# Altium schematic symbol library StreamDeck-V0.SchLib: 22 symbols
Pins are listed as number, name and electrical type; pins without a type are passive.

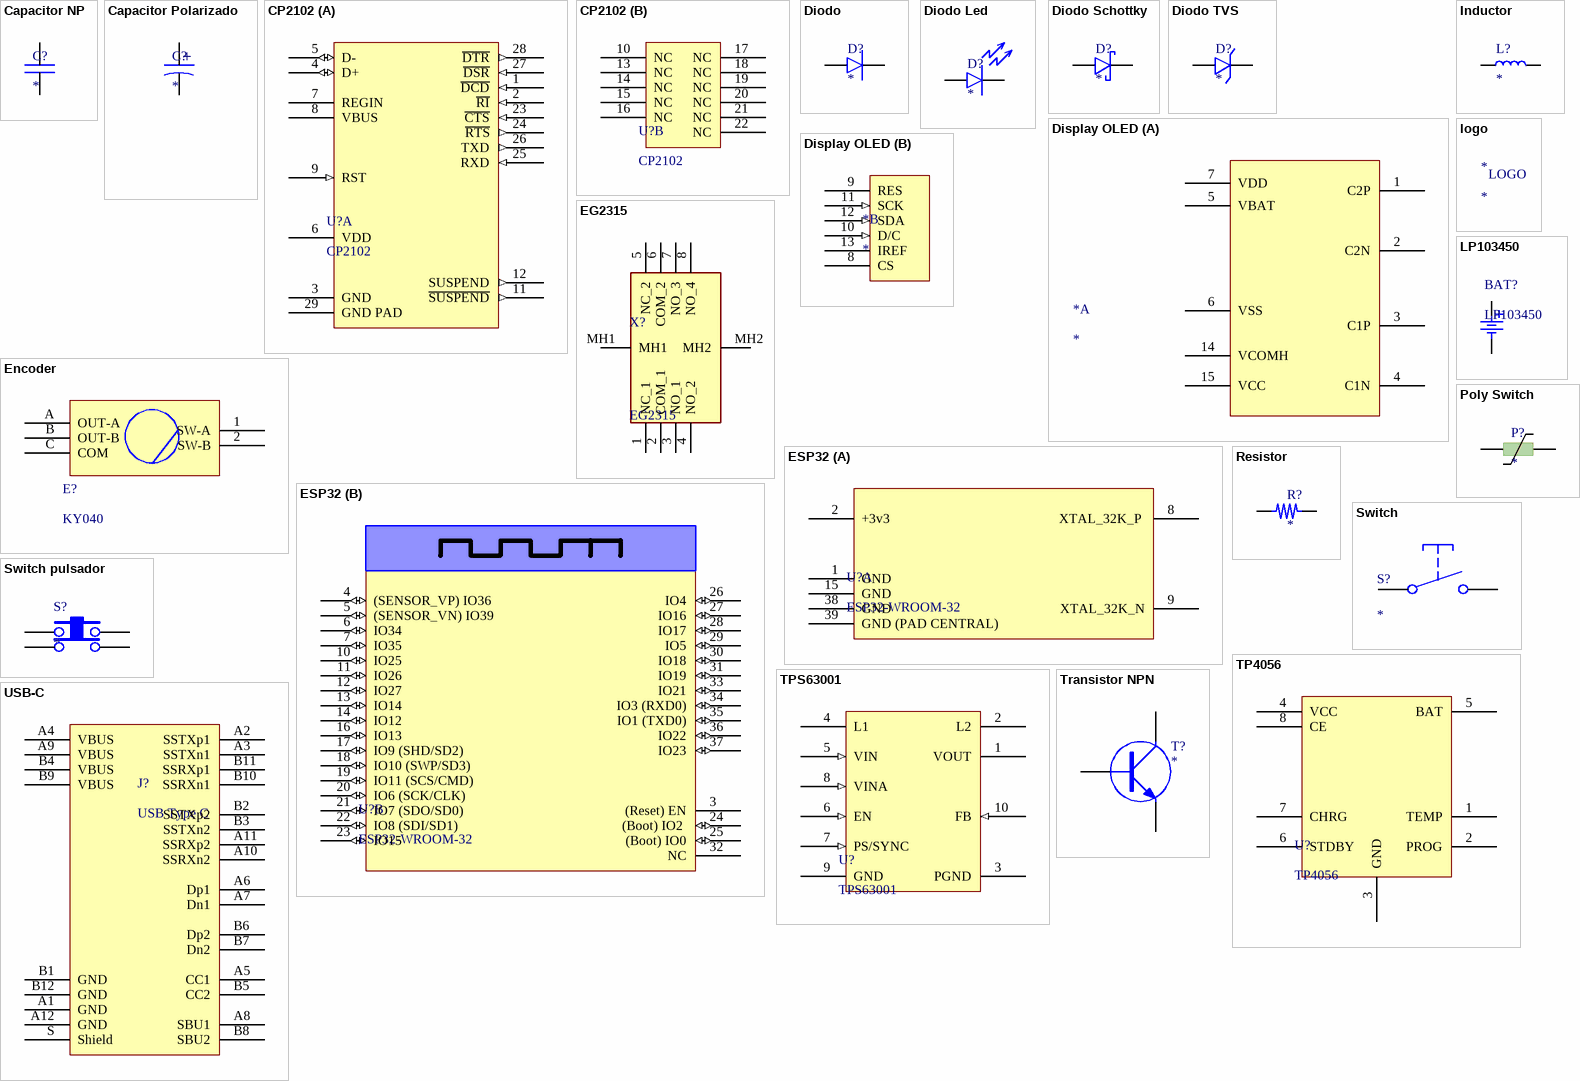
[diagram p0: symbols Capacitor NP to USB-C]

## Capacitor NP
designator C?
Capacitor no polarizado
pins: 1, 2

## Capacitor Polarizado
designator C?
Capacitor polarizado
pins: 1, 2
text: +

## CP2102
designator U?
SINGLE-CHIP USB TO UART BRIDGE WITH BUILT IN 3V3 REGULATOR
part A pins: 1 ~{DCD} (in), 2 ~{RI} (in), 3 GND, 4 D+ (io), 5 D- (io), 6 VDD (power), 7 REGIN, 8 VBUS (power), 9 RST (in), 11 ~{SUSPEND} (out), 12 SUSPEND (out), 23 ~{CTS} (in), 24 ~{RTS} (out), 25 RXD (in), 26 TXD (out), 27 ~{DSR} (in), 28 ~{DTR} (out), 29 GND PAD
part B pins: 10 NC, 13 NC, 14 NC, 15 NC, 16 NC, 17 NC, 18 NC, 19 NC, 20 NC, 21 NC, 22 NC

## Diodo
designator D?
Diodo
pins: 1 anodo, 2 catodo

## Diodo Led
designator D?
Diodo LED
pins: 1 anodo, 2 catodo

## Diodo Schottky
designator D?
Diodo Schottky
pins: 1 anodo, 2

## Diodo TVS
designator D?
Diodo TVS
pins: 1 anodo, 2 catodo

## Display OLED
designator *
Display OLED 0.91'' -  I2C - 128x32px - Controlador SSD1306
part A pins: 1 C2P, 2 C2N, 3 C1P, 4 C1N, 5 VBAT (power), 6 VSS (power), 7 VDD (power), 14 VCOMH (power), 15 VCC (power)
part B pins: 8 CS, 9 RES, 10 D/C (in), 11 SCK (in), 12 SDA (in), 13 IREF

## EG2315
designator X?
SLIDE, 200mA, 30VDC DP3T, On-On-On Through Hole, Right Angle; Manufacturer_Name: E-Switch; Geometry.Height: 4.7mm; Mouser Part Number: 612-EG2315; Mouser Price/Stock: https://www.mouser.co.uk/ProductDetail/E-Switch/EG2315?qs=6C6BR4UgC3OZWOW4uUYcjQ%3D%3D; Manufacturer_Part_Number: EG2315; Datasheet Link: https://configured-product-images.s3.amazonaws.com/2D/specs/EG2315.pdf
pins: 1 NC_1, 2 COM_1, 3 NO_1, 4 NO_2, 5 NC_2, 6 COM_2, 7 NO_3, 8 NO_4, MH1, MH2

## Encoder
designator E?, comment KY040
Encoder KY040
pins: 1 SW-A, 2 SW-B, A OUT-A, B OUT-B, C COM

## ESP32
designator U?, comment ESP32-WROOM-32
Modulo Bluetooth/Wifi/Microcontrolador ESP32-WROOM-32 de EspressIf. 38 pines, SMD, con antena incluida.
part A pins: 1 GND (power), 2 +3v3 (power), 8 XTAL_32K_P  "Cristal de 32.768khz +", 9 XTAL_32K_N "Cristal de 32.768khz -", 15 GND (power), 38 GND (power), 39 GND (PAD CENTRAL) (power)
part B pins: 3 (Reset) EN "Pullup interno - Poniendo un "0" se resetea", 4 (SENSOR_VP) IO36 (io), 5 (SENSOR_VN) IO39 (io), 6 IO34 (io), 7 IO35 (io), 10 IO25 (io), 11 IO26 (io), 12 IO27 (io), 13 IO14 (io), 14 IO12 (io), 16 IO13 (io), 17 IO9 (SHD/SD2) (io), 18 IO10 (SWP/SD3) (io), 19 IO11 (SCS/CMD) (io), 20 IO6 (SCK/CLK) (io), 21 IO7 (SDO/SD0) (io), 22 IO8 (SDI/SD1) (io), 23 IO15 (io), 24 (Boot) IO2  (io), 25 (Boot) IO0 (io) "Pullup interna - Poniendo un "0" entra en modo download", 26 IO4 (io), 27 IO16 (io), 28 IO17 (io), 29 IO5 (io), 30 IO18 (io), 31 IO19 (io), 32 NC, 33 IO21 (io), 34 IO3 (RXD0) (io), 35 IO1 (TXD0) (io), 36 IO22 (io), 37 IO23 (io)

## Inductor
designator L?
Inductor
pins: 1, 2

## logo
designator *
text: LOGO

## LP103450
designator BAT?
Bateria LiPo LP103450 - 3.7v - 1800mAh - 900mA corriente maxima de carga. Proteccion de descarga, temperatura y sobrecarga
pins: 1, 2

## Poly Switch
designator P?
Poly Switch
pins: 1 (power), 2 (power)

## Resistor
designator R?
Resistor
pins: 1, 2

## Switch
designator S?
Pulsador mecanico - Otemu/Cherry/Gateron
pins: 1, 2

## Switch pulsador
designator S?
Tact switch PCB
pins: 1, 2, 3, 4

## TP4056
designator U?
Standalone Linear Li-lon Battery Charger with Thermal Regulation in SOP-8
pins: 1 TEMP, 2 PROG, 3 GND (power), 4 VCC (power), 5 BAT (power), 6 STDBY, 7 CHRG, 8 CE

## TPS63001
designator U?
High-Efficient Single Inductor Buck-Boost Converter With 1.8-A Switches
pins: 1 VOUT (power), 2 L2, 3 PGND (power) "Power ground", 4 L1, 5 VIN (in) "Supply voltage for power stage", 6 EN (in), 7 PS/SYNC (in) "Enable / disable power-save mode (1 disabled, 0 enabled, clock signal for synchronization)", 8 VINA (in) "Supply voltage for control stage", 9 GND (power) "Control / logic ground", 10 FB (in)

## Transistor NPN
designator T?
Transistor bipolar NPN - Encapsulado SOT-23
pins: 1 B, 2 C, 3 E

## USB-C
designator J?, comment USB Type C
Conector USB C 3.0
pins: A1 GND, A2 SSTXp1, A3 SSTXn1, A4 VBUS, A5 CC1, A6 Dp1, A7 Dn1, A8 SBU1, A9 VBUS, A10 SSRXn2, A11 SSRXp2, A12 GND, B1 GND, B2 SSTXp2, B3 SSTXn2, B4 VBUS, B5 CC2, B6 Dp2, B7 Dn2, B8 SBU2, B9 VBUS, B10 SSRXn1, B11 SSRXp1, B12 GND, S Shield